# Altium footprint library header.PcbLib: 1 footprints
Each footprint in its own frame and in the unit in brackets; x right, y up, seen from the top. Pads: shape width x height; smd on the part's side, far side on the other; paste and mask are expansions set on the pad; w line width, h text height; cw(c..) or ccw(c..) is an arc to the next point about the centre after c.
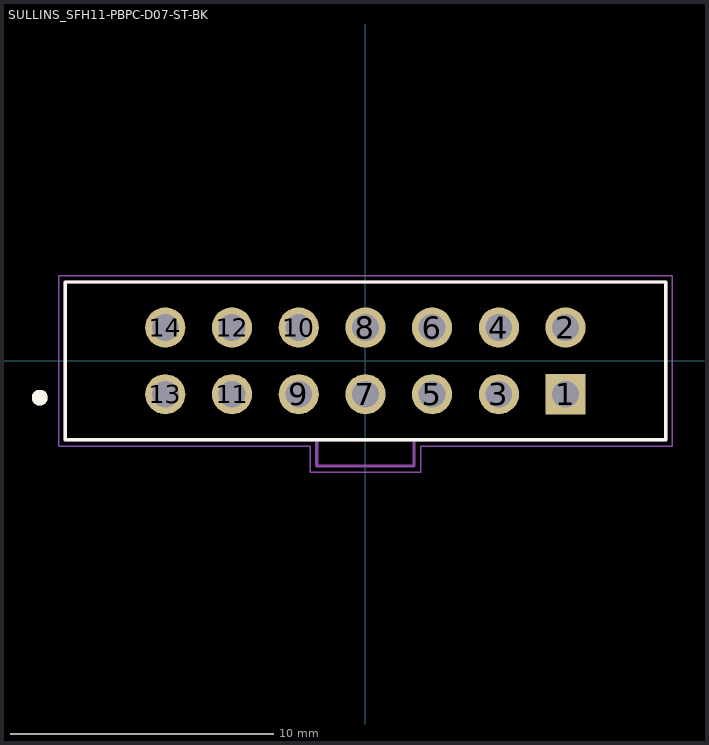
[diagram p0: the footprint, top view; thin cyan lines are the x and y axes]

## SULLINS_SFH11-PBPC-D07-ST-BK [mm]
pads (14):
  rect 1.53x1.53 hole 1.02: 1(7.62,-1.27)
  round 1.53 hole 1.02: 2(7.62,1.27) 3(5.08,-1.27) 4(5.08,1.27) 5(2.54,-1.27) 6(2.54,1.27) 7(0,-1.27) 8(0,1.27) 9(-2.54,-1.27) 10(-2.54,1.27) 11(-5.08,-1.27) 12(-5.08,1.27) 13(-7.62,-1.27) 14(-7.62,1.27)
Top Overlay:
  circle w0.3: c-12.4,-1.4 r0.15
  lines w0.127: -11.43,-3 11.43,-3 11.43,3 -11.43,3 -11.43,-3
Mechanical 13:
  circle w0.3: c-12.4,-1.4 r0.15
  lines w0.127: -1.85,-3 -1.85,-4 1.85,-4 1.85,-3 ; -1.85,-3 1.85,-3 ; -1.85,-3 -11.43,-3 -11.43,3 11.43,3 11.43,-3 1.85,-3
Mechanical 15:
  lines w0.05: -11.68,-3.25 -11.68,3.25 11.68,3.25 11.68,-3.25 2.1,-3.25 2.1,-4.25 -2.1,-4.25 -2.1,-3.25 -11.68,-3.25
3D body "SFH11-xxPC-D07-ST-BK.STEP": height 8.51, standoff -3.19, extent -11.35,-4.1 11.35,3